# Altium schematic symbol library VBlib_Indictors.SchLib: 23 symbols
Pins are listed as number, name and electrical type; pins without a type are passive.

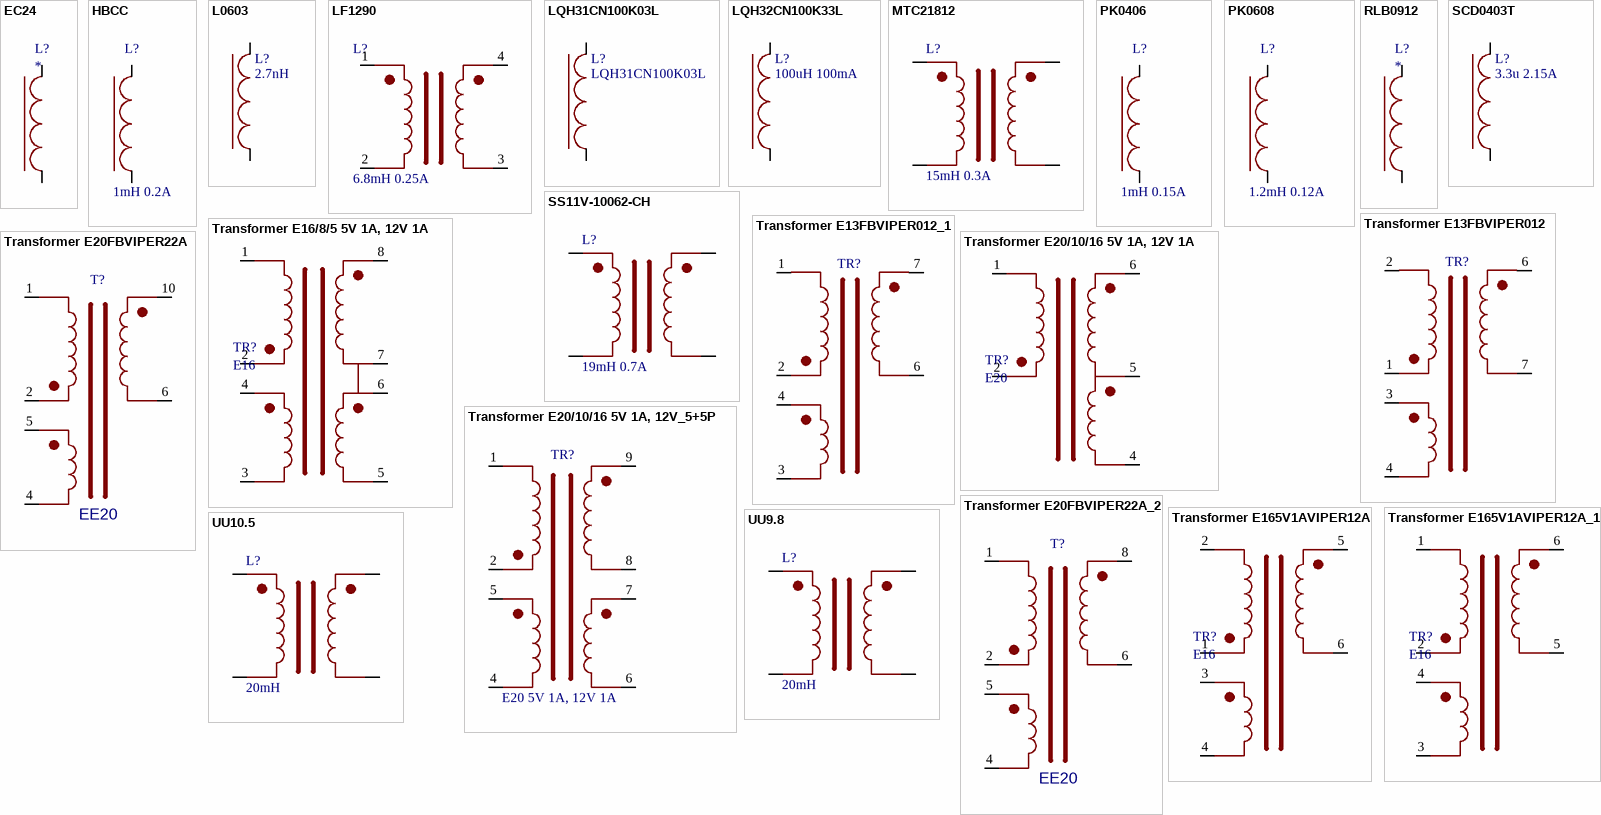
[diagram p0: symbols EC24 to UU10.5]

## EC24
designator L?
Leaded Inductors
footprint HBCC
pins: 1, 2

## HBCC
designator L?, comment HBCC-102J-02  (value not drawn)
Leaded Inductor, 1000uH, 0.2A
footprint HBCC
pins: 1, 2
text: 1mH 0.2A

## L0603
designator L?, comment 2.7nH
Inductor, Chip, 0603; value: 10uH
footprint R0603
pins: 1, 2

## LF1290
designator L?, comment LF1290NP-682  (value not drawn)
Inductor Sinf, 6.8mH, 0.25A
footprint LF1290 (AC COMMON MODE COIL <Pin Type: LF Series> LF1290)
pins: 1, 2, 3, 4
text: 6.8mH 0.25A

## LQH31CN100K03L
designator L?
INDUCTOR CHIP, 1206, 10uH, 230mA, 1.3 Ohm (ф. Murata); value: 10uH
footprint LQH31 (Chip Inductor, Murata LQH31 Series)
pins: 1, 2

## LQH32CN100K33L
designator L?, comment value 100uH 100mA  (hidden comment: LQH32CN101K23)
INDUCTOR CHIP, 1210, 100uH, 100mA (Murata)
footprint LQH32 (Chip Inductor, Murata LQH32 Series)
pins: 1, 2

## MTC21812
designator L?  (value not drawn)
Inductor Sinf, 15mH, 0.3A
footprint UU10.5 Line Filter
footprint UU10.5_UU9.8_UNI Line Filter
pins: 1, 2, 3, 4
text: 15mH 0.3A

## PK0406
designator L?, comment PK0406-102  (value not drawn)
ECM Radial Leaded Inductors, 1000uH, 0.15A
footprint PK0406 (INDUCTANCE)
footprint PK0406_L (INDUCTANCE)
pins: 1, 2
text: 1mH 0.15A

## PK0608
designator L?, comment PK0608-122  (value not drawn)
ECM Radial Leaded Inductors, 1200uH, 0.12A
footprint PK0608 (INDUCTANCE)
pins: 1, 2
text: 1.2mH 0.12A

## RLB0912
designator L?
RLB Series Radial Inductors Bourns
footprint RLB0912
pins: 1, 2

## SCD0403T
designator L?, comment SCD0403T-3R3M-N  (value not drawn)
3.3u, 2.15A SMD Indictor
footprint SCD0403T (Chip Inductor)
pins: 1, 2
text: 3.3u 2.15A

## SS11V-10062-CH
designator L?, comment SS11V-07190-CH  (value not drawn)
Inductor Sinf, 19mH, 0.7A
footprint SS11VL
pins: 1, 2, 3, 4
text: 19mH 0.7A

## Transformer E13FBVIPER012
designator TR?, comment EE13-19642  (value not drawn)
TRANSFORMER, 5V 0.5A, FlyBack, VIPER12A (Custom)
footprint E13/7/4 (EF 12.6)_NO_3D
pins: 1, 2, 3, 4, 6, 7

## Transformer E13FBVIPER012_1
designator TR?, comment EE13-19642  (value not drawn)
TRANSFORMER, 5V 0.5A, FlyBack, VIPER12A (Custom)
footprint E13/7/4 (EF 12.6)_NO_3D
pins: 1, 2, 3, 4, 6, 7

## Transformer E16/8/5 5V 1A, 12V 1A
designator TR?, comment E16
TRANSFORMER, E16/8/5 5V 1A, 12V 1A VIPer37HD (Custom)
pins: 1, 2, 3, 4, 5, 6, 7, 8

## Transformer E20/10/16 5V 1A, 12V 1A
designator TR?, comment E20
TRANSFORMER, E20/10/6 5V 1A, 12V 1A TinySwitch III (Custom)
pins: 1, 2, 4, 5, 6

## Transformer E20/10/16 5V 1A, 12V_5+5P
designator TR?, comment E20 5V 1A, 12V 1A
TRANSFORMER, E20/10/6 5V 1A, 12V 1A (Custom)
footprint EF20_E20/10/6_5+5P (Трансформатор для драйвера AC-DC 5V, Coil former Horizontal = B66202B1108T001)
pins: 1, 2, 4, 5, 6, 7, 8, 9

## Transformer E20FBVIPER22A
designator T?, comment EE20
TRANSFORMER, 12V 1.5A, FlyBack, VIPER22A (Custom)
footprint EF20_E20/10/6_5+5P
pins: 1, 2, 4, 5, 6, 10

## Transformer E20FBVIPER22A_2
designator T?, comment EE20
TRANSFORMER, 5V 3.5A, FlyBack, VIPER22A (Custom)
footprint EF20_E20/10/6_5+5P
pins: 1, 2, 4, 5, 6, 8

## Transformer E165V1AVIPER12A
designator TR?, comment E16
TRANSFORMER, E16 EE1606 5V 1A VIPER12A (Custom)
footprint E16/8/5 (EF 16) N27 EE1606 (Трансформатор для драйвера AC-DC 5V, Coil former Horizontal)
pins: 1, 2, 3, 4, 5, 6

## Transformer E165V1AVIPER12A_1
designator TR?, comment E16
TRANSFORMER, E16 EE1606 5V 1A VIPER12A (Custom)
footprint E16/8/5 (EF 16) N27 EE1606 (Трансформатор для драйвера AC-DC 5V, Coil former Horizontal)
pins: 1, 2, 3, 4, 5, 6

## UU9.8
designator L?, comment UU9.8, 20mH, 0.15mm wire  (value not drawn)
Inductor Sinf
footprint UU9.8 Line Filter
pins: 1, 2, 3, 4
text: 20mH

## UU10.5
designator L?, comment UU10.5, 20mH, 0.27mm wire  (value not drawn)
Inductor Sinf, 20mH, 0.3A
footprint UU10.5 Line Filter 20x16
pins: 1, 2, 3, 4
text: 20mH